# Altium schematic symbol library TPS53127.SchLib: 2 symbols
Pins are listed as number, name and electrical type; pins without a type are passive.

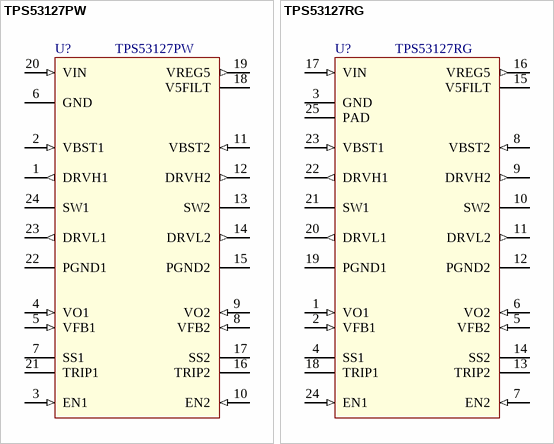
[diagram p0: symbols TPS53127PW to TPS53127RG]

## TPS53127PW
designator U?
Dual Synchronous Step-Down Controller  For Low Voltage Power Rails; value: TPS53127PW
footprint TSSOP-24 (Shrink Small Outline; 24 Leads; Body Width 4.4 mm; Pitch 0.65 mm)
pins: 1 DRVH1 (out), 2 VBST1 (in), 3 EN1 (in), 4 VO1 (in), 5 VFB1 (in), 6 GND (power), 7 SS1, 8 VFB2 (in), 9 VO2 (in), 10 EN2 (in), 11 VBST2 (in), 12 DRVH2 (out), 13 SW2, 14 DRVL2 (out), 15 PGND2, 16 TRIP2, 17 SS2, 18 V5FILT, 19 VREG5 (out), 20 VIN (in), 21 TRIP1, 22 PGND1, 23 DRVL1 (out), 24 SW1

## TPS53127RG
designator U?
Dual Synchronous Step-Down Controller  For Low Voltage Power Rails; value: TPS53127RG
footprint QFN24_N (24-Pin Plastic Quad Flat No-Lead 0.5 mm Pitch, IPC Medium Density)
pins: 1 VO1 (in), 2 VFB1 (in), 3 GND (power), 4 SS1, 5 VFB2 (in), 6 VO2 (in), 7 EN2 (in), 8 VBST2 (in), 9 DRVH2 (out), 10 SW2, 11 DRVL2 (out), 12 PGND2, 13 TRIP2, 14 SS2, 15 V5FILT, 16 VREG5 (out), 17 VIN (in), 18 TRIP1, 19 PGND1, 20 DRVL1 (out), 21 SW1, 22 DRVH1 (out), 23 VBST1 (in), 24 EN1 (in), 25 PAD (power)